# Altium integrated library WE_WR-TBL_Wire Protector System_10.00 mm_rev15a.IntLib: 25 symbols
Pins are listed as number, name and electrical type; pins without a type are passive.

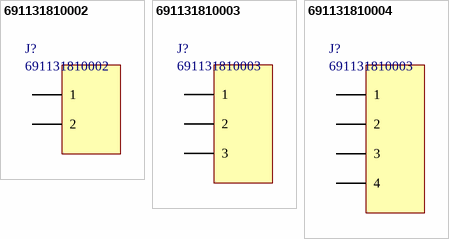
[diagram p0: symbols 691131810002 to 691131810004]

## 691131810002
designator J?
Horizontal Cable Entry with Pressure Clamp, Serie 1318 - 10.00 mm; Manufacturer: Wurth Elektronik; ComponentLink1 Description: Manufacturer; ComponentLink2 Description: Datasheet; NoPins: 2; ComponentLink1 URL: http://www.we-online.com; ComponentLink2 URL: http://katalog.we-online.de/em/datasheet/6911318100xx.pdf; Created By: Baojun Chen; Created Date: 3 August 2015; PartNo: 691131810002
footprint 691131810002 (Serie 1318 - 10.00 mm _2 pins)
pins: 1, 2

## 691131810003
designator J?
Horizontal Cable Entry with Pressure Clamp, Serie 1318 - 10.00 mm; Manufacturer: Wurth Elektronik; ComponentLink1 Description: Manufacturer; ComponentLink2 Description: Datasheet; NoPins: 3; ComponentLink1 URL: http://www.we-online.com; ComponentLink2 URL: http://katalog.we-online.de/em/datasheet/6911318100xx.pdf; Created By: Baojun Chen; Created Date: 3-Aug-15; PartNo: 691131810003
footprint 691131810003 (Serie 1318 - 10.00 mm _3 pins)
pins: 1, 2, 3

## 691131810004
designator J?, comment 691131810003
Horizontal Cable Entry with Pressure Clamp, Serie 1318 - 10.00 mm; Manufacturer: Wurth Elektronik; PartNo: 691131810004; ComponentLink1 Description: Manufacturer; ComponentLink2 Description: Datasheet; NoPins: 4; ComponentLink1 URL: http://www.we-online.com; ComponentLink2 URL: http://katalog.we-online.de/em/datasheet/6911318100xx.pdf; Created By: Baojun Chen; Created Date: 3-Aug-15
footprint 691131810004 (Serie 1318 - 10.00 mm _4 pins)
pins: 1, 2, 3, 4


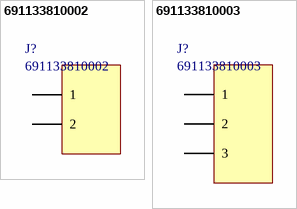
[diagram p1: symbols 691133810002 to 691133810003]

## 691133810002
designator J?
Horizontal Cable Entry with Pressure Clamp, Serie 1338 - 10.00 mm; Manufacturer: Wurth Elektronik; ComponentLink1 Description: Manufacturer; ComponentLink2 Description: Datasheet; NoPins: 2; ComponentLink1 URL: http://www.we-online.com; ComponentLink2 URL: http://katalog.we-online.de/em/datasheet/6911338100xx.pdf; Created By: Baojun Chen; Created Date: 4-Aug-15; PartNo: 691133810002
footprint 691133810002 (Serie 1338 - 10.00 mm_2 pins)
pins: 1, 2

## 691133810003
designator J?
Horizontal Cable Entry with Pressure Clamp, Serie 1338 - 10.00 mm; Manufacturer: Wurth Elektronik; ComponentLink1 Description: Manufacturer; ComponentLink2 Description: Datasheet; NoPins: 3; ComponentLink1 URL: http://www.we-online.com; ComponentLink2 URL: http://katalog.we-online.de/em/datasheet/6911338100xx.pdf; Created By: Baojun Chen; Created Date: 4-Aug-15; PartNo: 691133810003
footprint 691133810003 (Serie 1338 - 10.00 mm_3 pins)
pins: 1, 2, 3


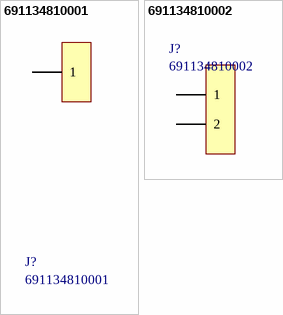
[diagram p2: symbols 691134810001 to 691134810002]

## 691134810001
designator J?
Horizontal Cable Entry with Pressure Clamp, Serie 1348 - 10.00 mm; Manufacturer: Wurth Elektronik; ComponentLink1 Description: Manufacturer; ComponentLink2 Description: Datasheet; NoPins: 1; ComponentLink1 URL: http://www.we-online.com; ComponentLink2 URL: http://katalog.we-online.de/em/datasheet/6911348100xx.pdf; Created By: Baojun Chen; Created Date: 5-Aug-15; PartNo: 691134810001
footprint 691134810001 (Serie 1348 - 10.00 mm _1 pin)
pins: 1

## 691134810002
designator J?
Horizontal Cable Entry with Pressure Clamp, Serie 1348 - 10.00 mm; Manufacturer: Wurth Elektronik; ComponentLink1 Description: Manufacturer; ComponentLink2 Description: Datasheet; NoPins: 2; ComponentLink1 URL: http://www.we-online.com; ComponentLink2 URL: http://katalog.we-online.de/em/datasheet/6911348100xx.pdf; Created By: Baojun Chen; Created Date: 5-Aug-15; PartNo: 691134810002
footprint 691134810002 (Serie 1348 - 10.00 mm _2 pins)
pins: 1, 2


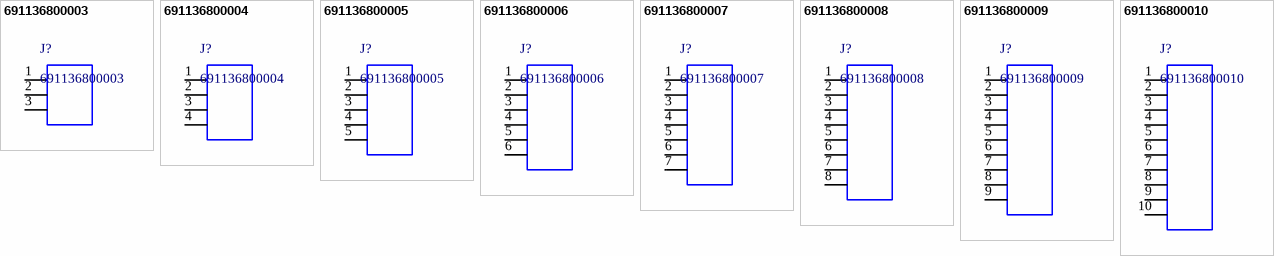
[diagram p3: symbols 691136800003 to 691136800010]

## 691136800003
designator J?
WR-TBL Terminal Blocks - Serie 1368; Manufacturer: Wurth Elektronik; ComponentLink1 Description: Manufacturer; ComponentLink2 Description: Datasheet; ComponentLink1URL: http://www.we-online.de; ComponentLink2URL: http://katalog.we-online.de/em/datasheet/6911368000XX.pdf; Created by: Baojun Chen; Created Date: 16.Sep.2015; partNo: 691136800003
footprint 691136800003 (Serie 1368 - 10.00 mm _ 3 pins)
pins: 1, 2, 3

## 691136800004
designator J?
WR-TBL Terminal Blocks - Serie 1368; Manufacturer: Wurth Elektronik; ComponentLink1 Description: Manufacturer; ComponentLink2 Description: Datasheet; ComponentLink1URL: http://www.we-online.de; ComponentLink2URL: http://katalog.we-online.de/em/datasheet/6911368000XX.pdf; Created by: Baojun Chen; Created Date: 16.Sep.2015; partNo: 691136800004
footprint 691136800004 (Serie 1368 - 10.00 mm _ 4 pins)
pins: 1, 2, 3, 4

## 691136800005
designator J?
WR-TBL Terminal Blocks - Serie 1368; Manufacturer: Wurth Elektronik; ComponentLink1 Description: Manufacturer; ComponentLink2 Description: Datasheet; ComponentLink1URL: http://www.we-online.de; ComponentLink2URL: http://katalog.we-online.de/em/datasheet/6911368000XX.pdf; Created by: Baojun Chen; Created Date: 16.Sep.2015; partNo: 691136800005
footprint 691136800005 (Serie 1368 - 10.00 mm _ 5 pins)
pins: 1, 2, 3, 4, 5

## 691136800006
designator J?
WR-TBL Terminal Blocks - Serie 1368; Manufacturer: Wurth Elektronik; ComponentLink1 Description: Manufacturer; ComponentLink2 Description: Datasheet; ComponentLink1URL: http://www.we-online.de; ComponentLink2URL: http://katalog.we-online.de/em/datasheet/6911368000XX.pdf; Created by: Baojun Chen; Created Date: 16.Sep.2015; partNo: 691136800006
footprint 691136800006 (Serie 1368 - 10.00 mm _ 6 pins)
pins: 1, 2, 3, 4, 5, 6

## 691136800007
designator J?
WR-TBL Terminal Blocks - Serie 1368; Manufacturer: Wurth Elektronik; ComponentLink1 Description: Manufacturer; ComponentLink2 Description: Datasheet; ComponentLink1URL: http://www.we-online.de; ComponentLink2URL: http://katalog.we-online.de/em/datasheet/6911368000XX.pdf; Created by: Baojun Chen; Created Date: 16.Sep.2015; partNo: 691136800007
footprint 691136800007 (Serie 1368 - 10.00 mm _ 7 pins)
pins: 1, 2, 3, 4, 5, 6, 7

## 691136800008
designator J?
WR-TBL Terminal Blocks - Serie 1368; Manufacturer: Wurth Elektronik; ComponentLink1 Description: Manufacturer; ComponentLink2 Description: Datasheet; ComponentLink1URL: http://www.we-online.de; ComponentLink2URL: http://katalog.we-online.de/em/datasheet/6911368000XX.pdf; Created by: Baojun Chen; Created Date: 16.Sep.2015; partNo: 691136800008
footprint 691136800008 (Serie 1368 - 10.00 mm _ 8 pins)
pins: 1, 2, 3, 4, 5, 6, 7, 8

## 691136800009
designator J?
WR-TBL Terminal Blocks - Serie 1368; Manufacturer: Wurth Elektronik; ComponentLink1 Description: Manufacturer; ComponentLink2 Description: Datasheet; ComponentLink1URL: http://www.we-online.de; ComponentLink2URL: http://katalog.we-online.de/em/datasheet/6911368000XX.pdf; Created by: Baojun Chen; Created Date: 16.Sep.2015; partNo: 691136800009
footprint 691136800009 (Serie 1368 - 10.00 mm _ 9 pins)
pins: 1, 2, 3, 4, 5, 6, 7, 8, 9

## 691136800010
designator J?
WR-TBL Terminal Blocks - Serie 1368; Manufacturer: Wurth Elektronik; ComponentLink1 Description: Manufacturer; ComponentLink2 Description: Datasheet; ComponentLink1URL: http://www.we-online.de; ComponentLink2URL: http://katalog.we-online.de/em/datasheet/6911368000XX.pdf; Created by: Baojun Chen; Created Date: 16.Sep.2015; partNo: 691136800010
footprint 691136800010 (Serie 1368 - 10.00 mm _ 10 pins)
pins: 1, 2, 3, 4, 5, 6, 7, 8, 9, 10


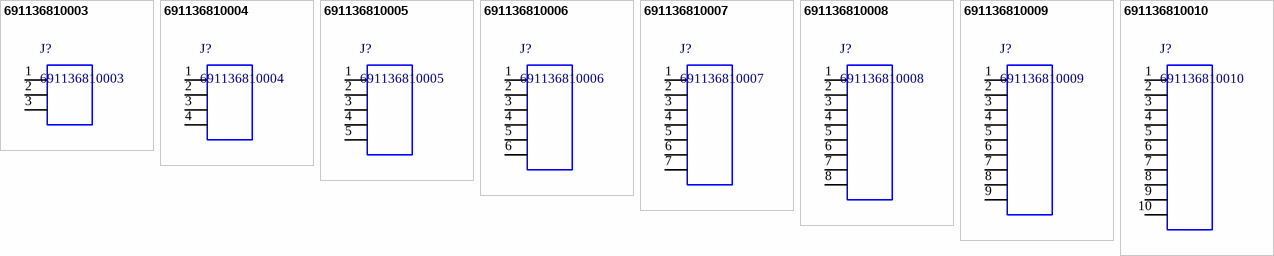
[diagram p4: symbols 691136810003 to 691136810010]

## 691136810003
designator J?
WR-TBL Terminal Blocks - Serie 1368; Manufacturer: Wurth Elektronik; ComponentLink1 Description: Manufacturer; ComponentLink2 Description: Datasheet; ComponentLink1URL: http://www.we-online.de; ComponentLink2URL: http://katalog.we-online.de/em/datasheet/6911368100XX.pdf; Created by: Baojun Chen; Created Date: 16.Sep.2015; partNo: 691136810003
footprint 691136810003 (Serie 1368 - 10.00 mm _ 3 pins)
pins: 1, 2, 3

## 691136810004
designator J?
WR-TBL Terminal Blocks - Serie 1368; Manufacturer: Wurth Elektronik; ComponentLink1 Description: Manufacturer; ComponentLink2 Description: Datasheet; ComponentLink1URL: http://www.we-online.de; ComponentLink2URL: http://katalog.we-online.de/em/datasheet/6911368100XX.pdf; Created by: Baojun Chen; Created Date: 16.Sep.2015; partNo: 691136810004
footprint 691136810004 (Serie 1368 - 10.00 mm _ 4 pins)
pins: 1, 2, 3, 4

## 691136810005
designator J?
WR-TBL Terminal Blocks - Serie 1368; Manufacturer: Wurth Elektronik; ComponentLink1 Description: Manufacturer; ComponentLink2 Description: Datasheet; ComponentLink1URL: http://www.we-online.de; ComponentLink2URL: http://katalog.we-online.de/em/datasheet/6911368100XX.pdf; Created by: Baojun Chen; Created Date: 16.Sep.2015; partNo: 691136810005
footprint 691136810005 (Serie 1368 - 10.00 mm _ 5 pins)
pins: 1, 2, 3, 4, 5

## 691136810006
designator J?
WR-TBL Terminal Blocks - Serie 1368; Manufacturer: Wurth Elektronik; ComponentLink1 Description: Manufacturer; ComponentLink2 Description: Datasheet; ComponentLink1URL: http://www.we-online.de; ComponentLink2URL: http://katalog.we-online.de/em/datasheet/6911368100XX.pdf; Created by: Baojun Chen; Created Date: 16.Sep.2015; partNo: 691136810006
footprint 691136810006 (Serie 1368 - 10.00 mm _ 6 pins)
pins: 1, 2, 3, 4, 5, 6

## 691136810007
designator J?
WR-TBL Terminal Blocks - Serie 1368; Manufacturer: Wurth Elektronik; ComponentLink1 Description: Manufacturer; ComponentLink2 Description: Datasheet; ComponentLink1URL: http://www.we-online.de; ComponentLink2URL: http://katalog.we-online.de/em/datasheet/6911368100XX.pdf; Created by: Baojun Chen; Created Date: 16.Sep.2015; partNo: 691136810007
footprint 691136810007 (Serie 1368 - 10.00 mm _ 7 pins)
pins: 1, 2, 3, 4, 5, 6, 7

## 691136810008
designator J?
WR-TBL Terminal Blocks - Serie 1368; Manufacturer: Wurth Elektronik; ComponentLink1 Description: Manufacturer; ComponentLink2 Description: Datasheet; ComponentLink1URL: http://www.we-online.de; ComponentLink2URL: http://katalog.we-online.de/em/datasheet/6911368100XX.pdf; Created by: Baojun Chen; Created Date: 16.Sep.2015; partNo: 691136810008
footprint 691136810008 (Serie 1368 - 10.00 mm _ 8 pins)
pins: 1, 2, 3, 4, 5, 6, 7, 8

## 691136810009
designator J?
WR-TBL Terminal Blocks - Serie 1368; Manufacturer: Wurth Elektronik; ComponentLink1 Description: Manufacturer; ComponentLink2 Description: Datasheet; ComponentLink1URL: http://www.we-online.de; ComponentLink2URL: http://katalog.we-online.de/em/datasheet/6911368100XX.pdf; Created by: Baojun Chen; Created Date: 16.Sep.2015; partNo: 691136810009
footprint 691136810009 (Serie 1368 - 10.00 mm _ 9 pins)
pins: 1, 2, 3, 4, 5, 6, 7, 8, 9

## 691136810010
designator J?
WR-TBL Terminal Blocks - Serie 1368; Manufacturer: Wurth Elektronik; ComponentLink1 Description: Manufacturer; ComponentLink2 Description: Datasheet; ComponentLink1URL: http://www.we-online.de; ComponentLink2URL: http://katalog.we-online.de/em/datasheet/6911368100XX.pdf; Created by: Baojun Chen; Created Date: 16.Sep.2015; partNo: 691136810010
footprint 691136810010 (Serie 1368 - 10.00 mm _ 10 pins)
pins: 1, 2, 3, 4, 5, 6, 7, 8, 9, 10


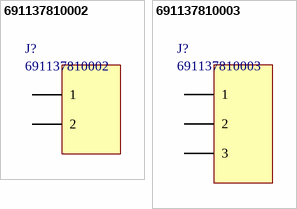
[diagram p5: symbols 691137810002 to 691137810003]

## 691137810002
designator J?
Horizontal Cable Entry with Pressure Clamp, Serie 1378 - 10.00 mm; Manufacturer: Wurth Elektronik; ComponentLink1 Description: Manufacturer; ComponentLink2 Description: Datasheet; NoPins: 2; ComponentLink1 URL: http://www.we-online.com; ComponentLink2 URL: http://katalog.we-online.de/em/datasheet/6911378100xx.pdf; Created By: Baojun Chen; Created Date: 5-Aug-15; PartNo: 691137810002
footprint 691137810002 (Serie 1378 - 10.00 mm_2 pins)
pins: 1, 2

## 691137810003
designator J?
Horizontal Cable Entry with Pressure Clamp, Serie 1378 - 10.00 mm; Manufacturer: Wurth Elektronik; ComponentLink1 Description: Manufacturer; ComponentLink2 Description: Datasheet; NoPins: 3; ComponentLink1 URL: http://www.we-online.com; ComponentLink2 URL: http://katalog.we-online.de/em/datasheet/6911378100xx.pdf; Created By: Baojun Chen; Created Date: 5-Aug-15; PartNo: 691137810003
footprint 691137810003 (Serie 1378 - 10.00 mm_3 pins)
pins: 1, 2, 3